# Altium footprint library XT9S20ANA16M.PcbLib: 1 footprints
Each footprint in its own frame and in the unit in brackets; x right, y up, seen from the top. Pads: shape width x height; smd on the part's side, far side on the other; paste and mask are expansions set on the pad; w line width, h text height; cw(c..) or ccw(c..) is an arc to the next point about the centre after c.
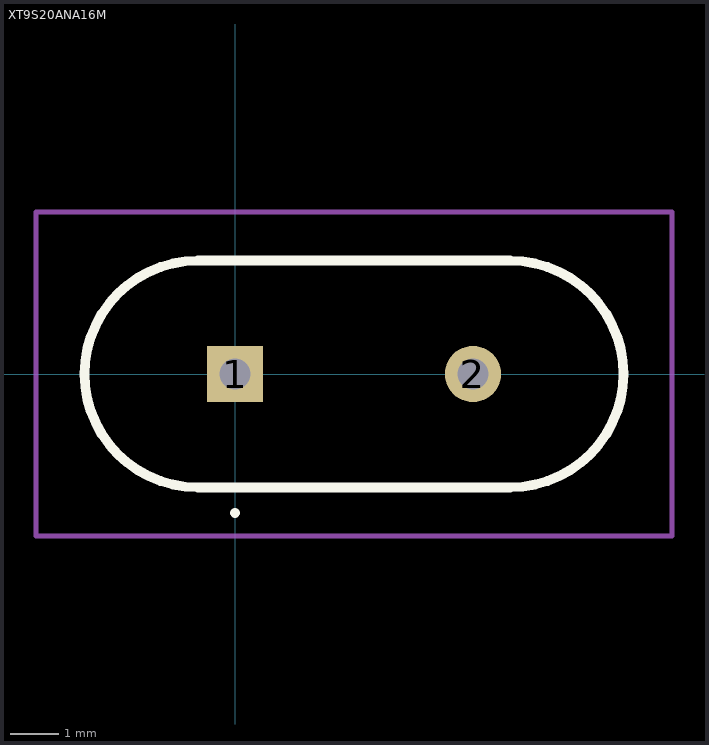
[diagram p0: the footprint, top view; thin cyan lines are the x and y axes]

## XT9S20ANA16M [mm]
pads (2):
  rect 1.155x1.155 hole 0.63: 1(0,0)
  round 1.155 hole 0.63: 2(4.88,0)
Top Overlay:
  lines w0.1: 0,-2.9 ccw(c0,-2.85) 0,-2.8 ccw(c0,-2.85) 0,-2.9
  lines w0.2: -0.76,-2.325 cw(c-0.76,0) -0.76,2.325 5.64,2.325 cw(c5.64,0) 5.64,-2.325 -0.76,-2.325
Mechanical 15:
  lines w0.1: -0.76,-2.325 cw(c-0.76,0) -0.76,2.325 5.64,2.325 cw(c5.64,0) 5.64,-2.325 -0.76,-2.325
Mechanical 20:
  lines w0.1: -4.085,-3.325 8.965,-3.325 8.965,3.325 -4.085,3.325 -4.085,-3.325